# EAGLE library part CSD88537 (library CMU-ArtFab)
Texas Instruments CSD88537ND Dual 60-V N-Channel NexFET™ Power MOSFET http://www.ti.com/lit/ds/symlink/csd88537nd.pdf
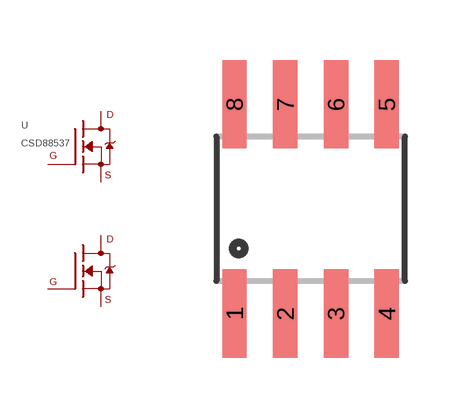
[diagram p15: symbol with the pads of SO08; footprint SO08]

Designator prefix -

## CSD88537  [SO08]
1  SOURCE1  pas
2  GATE1  pas
3  SOURCE2  pas
4  GATE2  pas
5  DRAIN2  pas
6  DRAIN2  pas
7  DRAIN1  pas
8  DRAIN1  pas

## Footprint SO08 (pad centres in mm)
Small Outline Package Fits JEDEC packages (narrow SOIC-8)
smd 0.61 x 2.21: 1 -1.905,-2.616; 2 -0.635,-2.616; 3 0.635,-2.616; 4 1.905,-2.616; 5 1.905,2.616; 6 0.635,2.616; 7 -0.635,2.616; 8 -1.905,2.616